# Altium footprint library ChipResistors-2512-E24.PcbLib: 2 footprints
Each footprint in its own frame and in the unit in brackets; x right, y up, seen from the top. Pads: shape width x height; smd on the part's side, far side on the other; paste and mask are expansions set on the pad; w line width, h text height; cw(c..) or ccw(c..) is an arc to the next point about the centre after c.
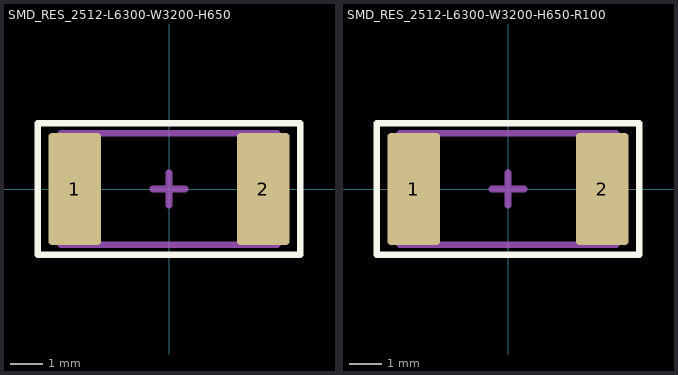
[diagram p0: the footprints below, top view; thin cyan lines are the x and y axes]

## SMD_RES_2512-L6300-W3200-H650 [mm] "Film Chip Resistor 2512, Height: 0.65mm"
height 0.65
pads (2):
  rrect10% 1.6x3.4 smd: 1(-2.873,0) 2(2.873,0)
Top Overlay:
  lines w0.2: -4,-2 4,-2 4,2 -4,2 -4,-2
Top Courtyard:
  lines w0.1: -4,-2 4,-2 4,2 -4,2 -4,-2
  lines w0.2: -0.5,0 0.5,0 ; 0,-0.5 0,0.5
Top Assembly:
  lines w0.2: -3.3,-1.7 3.3,-1.7 3.3,1.7 -3.3,1.7 -3.3,-1.7
3D body "CR2512-Empty.STEP": height 0.6, standoff 0, extent -3.2,-1.6 3.2,1.6

## SMD_RES_2512-L6300-W3200-H650-R100 [mm] "Film Chip Resistor 2512, Height: 0.65mm"
height 0.65
pads (2):
  rrect10% 1.6x3.4 smd: 1(-2.873,0) 2(2.873,0)
Top Overlay:
  lines w0.2: -4,-2 -4,2 4,2 4,-2 -4,-2
Top Courtyard:
  lines w0.1: -4,-2 -4,2 4,2 4,-2 -4,-2
  lines w0.2: -0.5,0 0.5,0 ; 0,-0.5 0,0.5
Top Assembly:
  lines w0.2: -3.3,-1.7 -3.3,1.7 3.3,1.7 3.3,-1.7 -3.3,-1.7
3D body "CR2512-R100.STEP": height 0.6, standoff 0, extent -3.2,-1.6 3.2,1.6